# Altium footprint library 694108301002.PcbLib: 1 footprints
Each footprint in its own frame and in the unit in brackets; x right, y up, seen from the top. Pads: shape width x height; smd on the part's side, far side on the other; paste and mask are expansions set on the pad; w line width, h text height; cw(c..) or ccw(c..) is an arc to the next point about the centre after c.
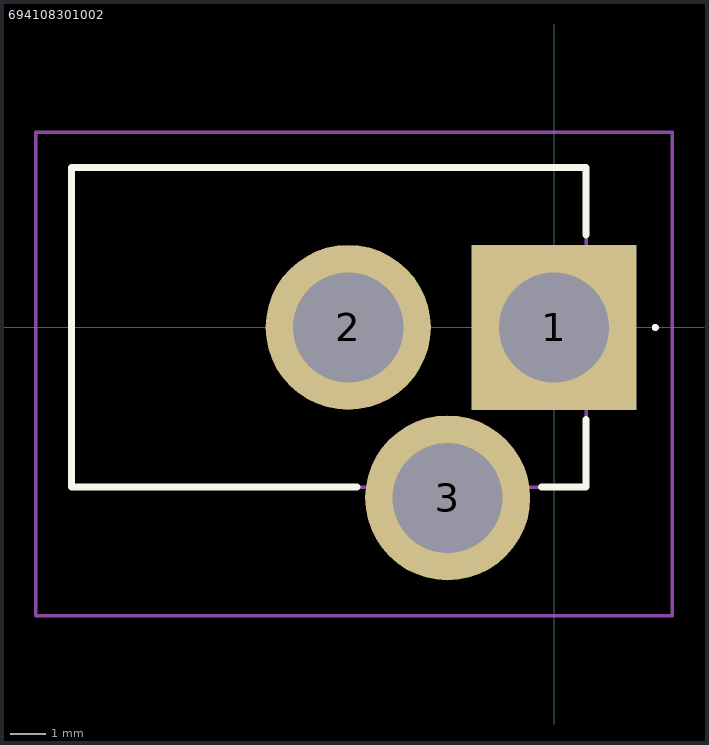
[diagram p0: the footprint, top view; thin cyan lines are the x and y axes]

## 694108301002 [mm]
pads (3):
  rect 4.65x4.65 hole 3.1: 1(0,0)
  round 4.65 hole 3.1: 2(-5.8,0) 3(-3,-4.8)
Top Overlay:
  lines w0.1: 2.8,0 2.8,0 ; 2.8,0 ccw(c2.85,0) 2.9,0 ; 2.8,0 cw(c2.85,0) 2.9,0 ; 2.9,0 2.9,0
  lines w0.2: -5.55,-4.5 -13.6,-4.5 -13.6,4.5 0.9,4.5 0.9,2.6 ; -0.35,-4.5 0.9,-4.5 0.9,-2.6
Mechanical 15:
  lines w0.1: -13.6,-4.5 0.9,-4.5 0.9,4.5 -13.6,4.5 -13.6,-4.5
Mechanical 20:
  lines w0.1: -14.6,-8.125 3.325,-8.125 3.325,5.5 -14.6,5.5 -14.6,-8.125